# EAGLE library part TH8056-KDC-A8 (library Goodies)
The Melexis TH8056 is a physical layer device for a single wire data link capable of operating with various CSMA/CR protocols such as the Bosch Controller Area Network (CAN) version 2.0. The TH8056 transceiver is designed in accordance with the Single Wire CAN Physical Layer Specification GMW3089 V2.3 and supports many additional features like under-voltage lock-out, time-out for faulty blocked input signals, output blanking time in case of bus ringing and a very low sleep mode current.
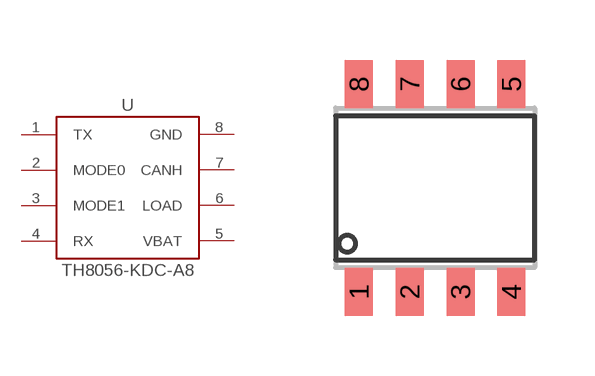
[diagram p6: symbol with the pads of SOIC-8; footprint SOIC-8]

Designator prefix U

## TH8056-KDC-A8  [SOIC-8]
1  TX  in
2  MODE0  in
3  MODE1  in
4  RX  in
5  VBAT  pwr
6  LOAD  out
7  CANH
8  GND  pwr

## Footprint SOIC-8 (pad centres in mm)
Description: SOIC-8 Based on TH8056 Single Wire CAN Transceiver datasheet TESTED
smd 0.7 x 1.2: 1 -1.905,-2.6; 2 -0.635,-2.6; 3 0.635,-2.6; 4 1.905,-2.6; 5 1.905,2.6; 6 0.635,2.6; 7 -0.635,2.6; 8 -1.905,2.6